# Altium schematic symbol library Header 3X2H.Schlib: 1 symbol
Pins are listed as number, name and electrical type; pins without a type are passive.

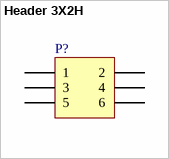
[diagram p0: symbol Header 3X2H]

## Header 3X2H
designator P?
Header, 3-Pin, Dual row, Right Angle
pins: 1, 2, 3, 4, 5, 6